# EAGLE library part ER_OLED018-1 (library SKAARHOJ)
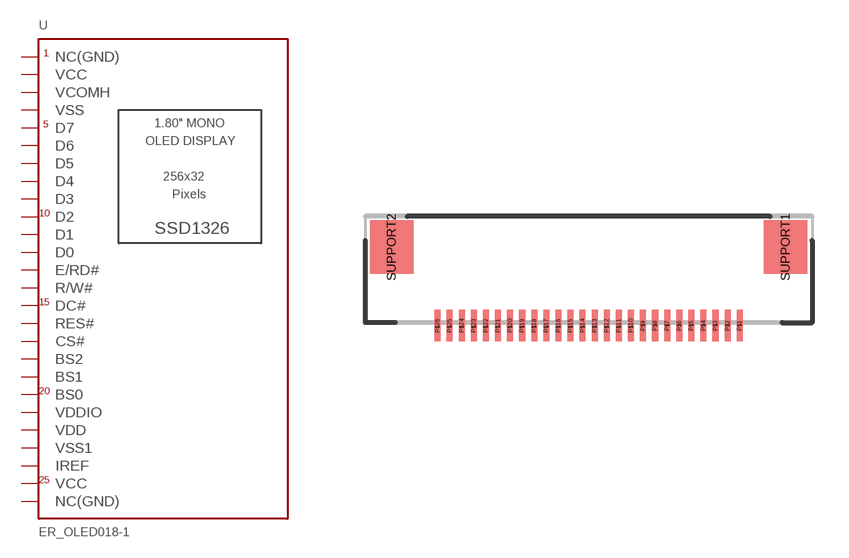
[diagram p80: symbol with the pads of FH12A-26S-0.5SH(55); footprint FH12A-26S-0.5SH(55)]

Designator prefix -

## ER_OLED018-1  [FH12A-26S-0.5SH(55)]
P$1  NC(GND)  nc
P$2  VCC  nc
P$3  IREF
P$4  VSS1  pwr
P$5  VDD  pwr
P$6  VDDIO  pwr
P$7  BS0
P$8  BS1
P$9  BS2
P$10  CS#
P$11  RES#
P$12  DC#
P$13  R/W#
P$14  E/RD#
P$15  D0
P$16  D1
P$17  D2
P$18  D3
P$19  D4
P$20  D5
P$21  D6
P$22  D7
P$23  VSS  pwr
P$24  VCOMH  pwr
P$25  VCC  pwr
P$26  NC(GND)  nc

## Footprint FH12A-26S-0.5SH(55) (pad centres in mm)
smd 0.25 x 1.3: P$1 6.25,-3.25; P$2 5.75,-3.25; P$3 5.25,-3.25; P$4 4.75,-3.25; P$5 4.25,-3.25; P$6 3.75,-3.25; P$7 3.25,-3.25; P$8 2.75,-3.25; P$9 2.25,-3.25; P$10 1.75,-3.25; P$11 1.25,-3.25; P$12 0.75,-3.25; P$13 0.25,-3.25; P$14 -0.25,-3.25; P$15 -0.75,-3.25; P$16 -1.25,-3.25; P$17 -1.75,-3.25; P$18 -2.25,-3.25; P$19 -2.75,-3.25; P$20 -3.25,-3.25; P$21 -3.75,-3.25; P$22 -4.25,-3.25; P$23 -4.75,-3.25; P$24 -5.25,-3.25; P$25 -5.75,-3.25; P$26 -6.25,-3.25
smd 1.8 x 2.2: SUPPORT1 8.15,0; SUPPORT2 -8.15,0